# Altium schematic symbol library MT29F64G08AJABAWP-TSOP48.SchLib: 1 symbol
Pins are listed as number, name and electrical type; pins without a type are passive.

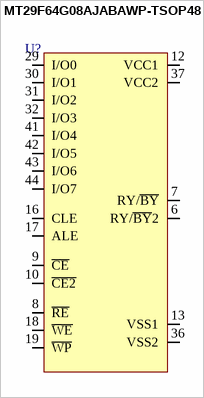
[diagram p0: symbol MT29F64G08AJABAWP-TSOP48]

## MT29F64G08AJABAWP-TSOP48
designator U?  (value not drawn)
pins: 6 RY/~{BY}2, 7 RY/~{BY}, 8 ~{RE}, 9 ~{CE}, 10 ~{CE2}, 12 VCC1, 13 VSS1, 16 CLE, 17 ALE, 18 ~{WE}, 19 ~{WP}, 29 I/O0, 30 I/O1, 31 I/O2, 32 I/O3, 36 VSS2, 37 VCC2, 41 I/O4, 42 I/O5, 43 I/O6, 44 I/O7